# Altium footprint library 001-H-01 CAN to Bluetooth.PcbLib: 40 footprints (part 2 of 3)
Each footprint in its own frame and in the unit in brackets; x right, y up, seen from the top. Pads: shape width x height; smd on the part's side, far side on the other; paste and mask are expansions set on the pad; w line width, h text height; cw(c..) or ccw(c..) is an arc to the next point about the centre after c.
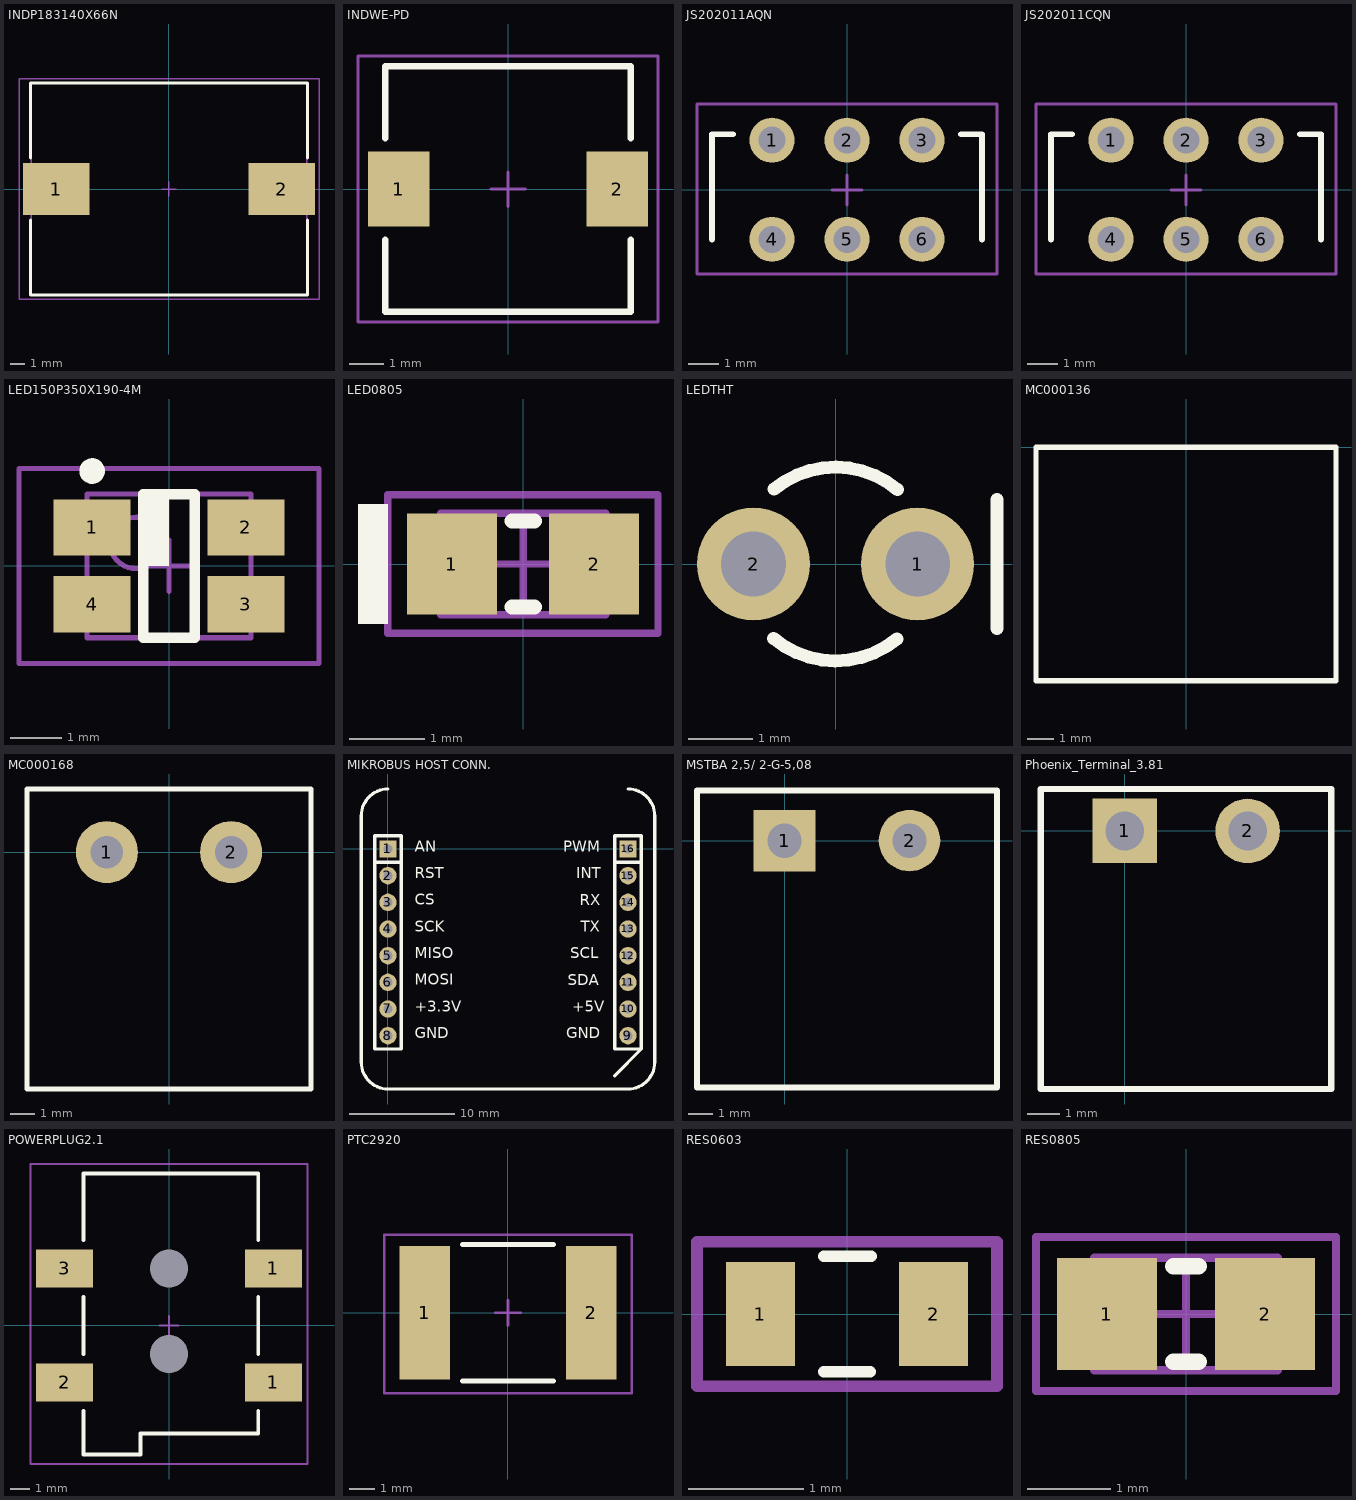
[diagram p1: the footprints below, top view; thin cyan lines are the x and y axes]

## INDP183140X66N [mm] "Precision Wire Wound Inductor, 2-Leads, Body 18.3x14.0mm, IPC Medium Density"
height 6.6
pads (2):
  rect 4.5x3.5 smd: 1(-7.62,0) 2(7.62,0)
Top Overlay:
  lines w0.2: -9.35,-2.1 -9.35,-7.15 9.35,-7.15 9.35,-2.1 ; -9.35,2.1 -9.35,7.15 9.35,7.15 9.35,2.1
Mechanical 13:
  lines w0.1: -9.3,-7.15 9.3,-7.15 9.3,7.15 -9.3,7.15 -9.3,-7.15
Mechanical 15:
  lines w0.1: -0.5,0 0.5,0 ; 0,-0.5 0,0.5 ; -10.125,-7.45 10.125,-7.45 10.125,7.45 -10.125,7.45 -10.125,-7.45
3D body: height 6.6, standoff 0, extent -9.3,-7.15 9.3,7.15

## INDWE-PD [mm] "Inductor, 2-Leads, Body 7.3x7.3mm, IPC Medium Density"
height 6.6
pads (2):
  rect 1.8x2.2 smd: 1(-3.2,0) 2(3.2,0)
Top Overlay:
  lines w0.2: -3.6,-1.5 -3.6,-3.6 3.6,-3.6 3.6,-1.5 ; -3.6,1.5 -3.6,3.6 3.6,3.6 3.6,1.5
Mechanical 15:
  lines w0.1: -0.5,0 0.5,0 ; 0,-0.5 0,0.5 ; -4.4,-3.9 4.4,-3.9 4.4,3.9 -4.4,3.9 -4.4,-3.9
3D body "STEP-WE-PD-7345-Metal-rev1.stp": height 4.5, standoff 0, extent -3.65,-3.65 3.65,3.65

## JS202011AQN [mm]
pads (6):
  round 1.5 hole 0.9: 1(-2.5,1.65) 2(0,1.65) 3(2.5,1.65) 4(-2.5,-1.65) 5(0,-1.65) 6(2.5,-1.65)
Top Overlay:
  lines w0.2: -4.5,-1.65 -4.5,1.85 -3.8,1.85 ; 3.8,1.85 4.5,1.85 4.5,-1.65
Mechanical 15:
  lines w0.1: -0.5,0 0.5,0 ; 0,-0.5 0,0.5 ; -5,-2.8 5,-2.8 5,2.85 -5,2.85 -5,-2.7 -5,-2.8
3D body "JS202011AQN.stp": height 3.52, standoff -2.98, extent -4.5,-3.8 4.5,1.8

## JS202011CQN [mm]
pads (6):
  round 1.5 hole 0.9: 1(-2.5,1.65) 2(0,1.65) 3(2.5,1.65) 4(-2.5,-1.65) 5(0,-1.65) 6(2.5,-1.65)
Top Overlay:
  lines w0.2: -4.5,-1.65 -4.5,1.85 -3.8,1.85 ; 3.8,1.85 4.5,1.85 4.5,-1.65
Mechanical 15:
  lines w0.1: -0.5,0 0.5,0 ; 0,-0.5 0,0.5 ; -5,-2.8 5,-2.8 5,2.85 -5,2.85 -5,-2.7 -5,-2.8
3D body "JS202011CQN.stp": height 5.22, standoff -3.28, extent -4.5,-1.8 4.5,1.8

## LED150P350X190-4M [mm] "LED, 4-Leads, Body 2.8x3.5mm (max), Pitch 1.50mm, IPC Low Density"
height 1.9
pads (4):
  rect 1.5x1.1 smd: 1(-1.5,0.75) 2(1.5,0.75) 3(1.5,-0.75) 4(-1.5,-0.75)
Top Overlay:
  circle w0.25: c-1.5,1.85 r0.125
  rectangle: -0.5,0 0,1.4
  lines w0.2: -0.5,-1.4 -0.5,1.4 0.5,1.4 0.5,-1.4 -0.5,-1.4
Mechanical 13:
  circle w0.1: c-0.65,0.45 r0.5
  lines w0.1: -1.6,-1.4 -1.6,1.4 1.6,1.4 1.6,-1.4 -1.6,-1.4
Mechanical 15:
  lines w0.1: -0.5,0 0.5,0 ; 0,-0.5 0,0.5 ; -2.925,-1.9 -2.925,1.9 2.925,1.9 2.925,-1.9 -2.925,-1.9
3D body: height 1.9, standoff 0.64, extent -1.6,-1.4 1.6,1.4

## LED0805 [mm] "Chip LED, 2-Leads, Body 2.0x1.3mm, IPC Medium Density"
height 0.7
pads (2):
  rect 1.2x1.35 smd: 1(-0.95,0) 2(0.95,0)
Top Overlay:
  rectangle: -2.2,-0.8 -1.8,0.8
  lines w0.2: -0.15,-0.575 0.15,-0.575 ; -0.15,0.575 0.15,0.575
Mechanical 13:
  lines w0.1: -1.1,-0.675 1.1,-0.675 1.1,0.675 -1.1,0.675 -1.1,-0.675
Mechanical 15:
  lines w0.1: -0.5,0 0.5,0 ; 0,-0.5 0,0.5 ; -1.8,-0.925 1.8,-0.925 1.8,0.925 -1.8,0.925 -1.8,-0.925
3D body: height 0.7, standoff 0, extent -1.1,-0.675 1.1,0.675
3D body "User Library-User Library-led_0805 GRE.step": height 1.1, standoff 0, extent -1.01,-0.625 1.01,0.625

## LEDTHT [mm] "LED through hole 3mm"
pads (2):
  round 1.75 hole 1: 1(1.27,0) 2(-1.27,0)
Top Overlay:
  lines w0.2: -0.96,-1.152 ccw(c0,0) 0.95,-1.161 ; -0.95,1.161 cw(c0,0) 0.96,1.152 ; 2.5,-1 2.5,1

## MC000136 [mm]
Top Overlay:
  lines w0.2: -5.715,-8.89 5.715,-8.89 5.715,0 -5.715,0 -5.715,-8.89
3D body "34c9465_796634-2.stp": height 17.25, standoff 1.75, extent -5.08,-26.035 5.08,-7.635

## MC000168 [mm]
pads (2):
  round 2.5 hole 1.3: 1(-2.5,0) 2(2.5,0)
Top Overlay:
  lines w0.2: -5.715,-9.525 -5.715,2.54 5.715,2.54 5.715,-9.525 -5.715,-9.525
3D body "20020109h021a01lf.stp": height 8.5, standoff -3.49, extent -5.08,-9.46 5.08,2.54

## MIKROBUS HOST CONN. [mil]
height 47.24
pads (16):
  rect 65x65 hole 35: 1(0,0) 16(900,0)
  round 65 hole 35: 2(0,-100) 3(0,-200) 4(0,-300) 5(0,-400) 6(0,-500) 7(0,-600) 8(0,-700) 9(900,-700) 10(900,-600) 11(900,-500) 12(900,-400) 13(900,-300) 14(900,-200) 15(900,-100)
Top Overlay:
  lines w12: -50,-50 50,-50 ; 0,225 ccw(c0,125) -100,125 -100,-800 ccw(c0,-800) 0,-900 900,-900 ccw(c900,-800) 1000,-800 1000,125 ccw(c900,125) 900,225 ; 850,-850 950,-750 ; 850,-50 950,-50 ; 950,-750 850,-750 850,50 950,50 950,-750 ; -50,-750 -50,50 50,50 50,-750 -50,-750
  text "SDA" at 674.28,-525 h70
  text "RST" at 100,-125 h70
  text "CS" at 100,-225 h70
  text "MISO" at 100,-425 h70
  text "SCK" at 100,-325 h70
  text "MOSI" at 100,-525 h70
  text "+3.3V" at 100,-625 h70
  text "GND" at 100,-725 h70
  text "SCL" at 683.48,-425 h70
  text "INT" at 706.49,-125 h70
  text "RX" at 718.67,-225 h70
  text "TX" at 722.17,-325 h70
  text "GND" at 668,-725 h70
  text "+5V" at 691,-625 h70
  text "AN" at 100,-25 h70
  text "PWM" at 656.79,-25 h70
Bottom Overlay:
  lines w12: -50,-50 50,-50 ; 850,-50 950,-50 ; -50,-750 -50,50 50,50 50,-750 -50,-750 ; -50,-750 -50,-850 850,-850 950,-750 ; 950,-750 850,-750 850,50 950,50 950,-750
  text "PWM" at 800,-25 h70
  text "+5V" at 800,-625 h70
  text "GND" at 800,-725 h70
  text "TX" at 800,-325 h70
  text "RX" at 800,-225 h70
  text "INT" at 800,-125 h70
  text "SCL" at 800,-425 h70
  text "SDA" at 800,-525 h70
  text "AN" at 180.36,-25 h70
  text "GND" at 230,-725 h70
  text "+3.3V" at 260,-625 h70
  text "MOSI" at 248.27,-525 h70
  text "SCK" at 224.23,-325 h70
  text "MISO" at 251.12,-425 h70
  text "CS" at 179,-225 h70
  text "RST" at 217.49,-125 h70
3D body "F1X8.stp": height 334.65, standoff -124.02, extent 850.79,-754.92 949.21,54.92
3D body "F1X8.stp": height 334.65, standoff -124.02, extent -49.21,-754.92 49.21,54.92

## MSTBA 2,5/ 2-G-5,08 [mm] "MSTBA 2,5/ 2-G-5,08 1757242"
pads (2):
  rect 2.5x2.5 hole 1.4: 1(0,0)
  round 2.5 hole 1.4: 2(5.08,0)
Top Overlay:
  lines w0.254: -3.556,-10.033 8.636,-10.033 8.636,2.032 -3.556,2.032 -3.556,-10.033
3D body "pxc_1757242_06_MSTBA-2-5-2-G-5-08_3D (1).stp": height 8.6, standoff -3.5, extent -3.54,-10 8.62,2.002

## Phoenix_Terminal_3.81 [mm]
pads (2):
  rect 2x2 hole 1.2: 1(0,0)
  round 2 hole 1.2: 2(3.81,0)
Top Overlay:
  lines w0.2: -2.6,-8 -2.6,1.3 6.4,1.3 6.4,-8 -2.6,-8
3D body "pxc_1803277_05_MC-1-5-2-G-3-81_3D.stp": height 7.25, standoff -3.4, extent -2.6,-7.95 6.41,1.35

## POWERPLUG2.1 [mm]
pads (6):
  rect 3x2 smd: 1(5.5,-3) 1(5.5,3) 2(-5.5,-3) 3(-5.5,3)
  round 0 hole 2: ""(0,-1.5) ""(0,3)
Top Overlay:
  lines w0.2: -4.5,-4.5 -4.5,-6.8 -1.5,-6.8 -1.5,-5.7 4.7,-5.7 4.7,-4.5 ; -4.5,-1.5 -4.5,1.5 ; -4.5,4.5 -4.5,8 4.7,8 4.7,4.5 ; 4.7,-1.5 4.7,1.5
Mechanical 15:
  lines w0.1: -0.5,0 0.5,0 ; 0,-0.5 0,0.5 ; -7.3,-7.3 -7.3,8.5 7.3,8.5 7.3,-7.3 -7.3,-7.3
3D body "pj-002bh-smt-tr.stp": height 11, standoff -1.2, extent -6.3,-6.8 6.3,8

## PTC2920 [mm]
pads (2):
  rect 2x5.3 smd: 1(-3.3,0) 2(3.3,0)
Top Overlay:
  lines w0.2: -1.8,-2.7 1.8,-2.7 ; -1.8,2.7 1.8,2.7
Mechanical 15:
  lines w0.1: -0.5,0 0.5,0 ; 0,-0.5 0,0.5 ; -4.9,-3.2 4.9,-3.2 4.9,3.1 -4.9,3.1 -4.9,-3.2
3D body "User Library-0ZCF0200AF2C.step": height 0.4, standoff -0.4, extent -3.99,-2.72 3.99,2.72

## RES0603 [mm] "Chip Resistor, 2-Leads"
height 0.5
pads (2):
  rect 0.6x0.9 smd: 1(-0.75,0) 2(0.75,0)
Top Overlay:
  lines w0.1: -0.2,-0.5 0.2,-0.5 ; -0.2,0.5 0.21,0.5
Mechanical 15:
  lines w0.1: -1.3,-0.625 -1.3,0.625 1.3,0.625 1.3,-0.625 -1.3,-0.625
3D body "RES0603.STEP": height 0.45, standoff -0.01, extent -0.775,-0.43 0.775,0.43

## RES0805 [mm] "Chip Resistor, 2-Leads, Body 2.0x1.3mm, IPC Medium Density"
height 0.7
pads (2):
  rect 1.2x1.35 smd: 1(-0.95,0) 2(0.95,0)
Top Overlay:
  lines w0.2: -0.15,-0.575 0.15,-0.575 ; -0.15,0.575 0.15,0.575
Mechanical 13:
  lines w0.1: -1.1,-0.675 -1.1,0.675 1.1,0.675 1.1,-0.675 -1.1,-0.675
Mechanical 15:
  lines w0.1: -0.5,0 0.5,0 ; 0,-0.5 0,0.5 ; -1.8,-0.925 -1.8,0.925 1.8,0.925 1.8,-0.925 -1.8,-0.925
3D body: height 0.7, standoff 0, extent -1.1,-0.675 1.1,0.675
3D body "RES_0805.step": height 0.43, standoff -0.03, extent -1,-0.63 1,0.63